# Altium footprint library 830003000.PcbLib: 1 footprints
Each footprint in its own frame and in the unit in brackets; x right, y up, seen from the top. Pads: shape width x height; smd on the part's side, far side on the other; paste and mask are expansions set on the pad; w line width, h text height; cw(c..) or ccw(c..) is an arc to the next point about the centre after c.
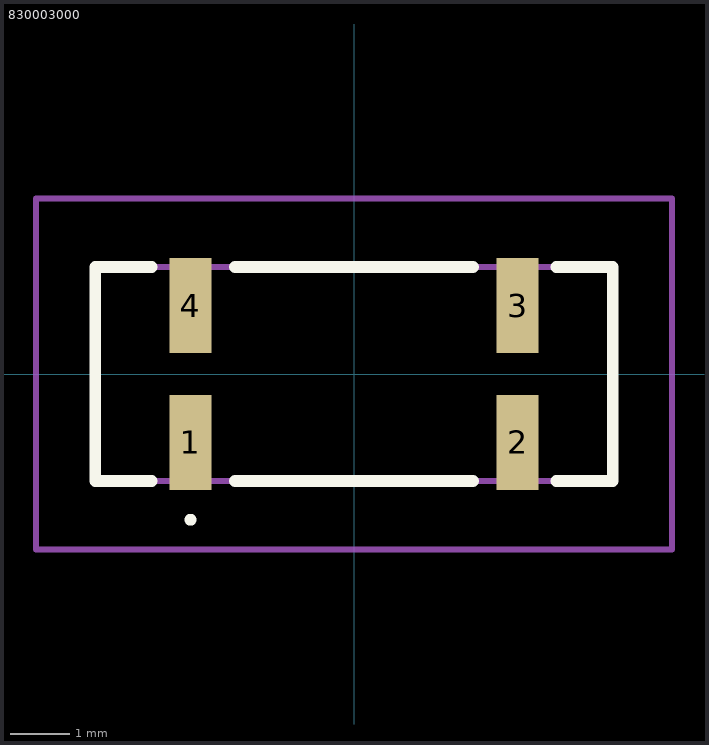
[diagram p0: the footprint, top view; thin cyan lines are the x and y axes]

## 830003000 [mm]
pads (4):
  rect 0.7x1.6 smd: 1(-2.75,-1.15) 2(2.75,-1.15) 3(2.75,1.15) 4(-2.75,1.15)
Top Overlay:
  lines w0.1: -2.75,-2.5 cw(c-2.75,-2.45) -2.75,-2.4 ; -2.75,-2.5 -2.75,-2.5 ; -2.75,-2.5 ccw(c-2.75,-2.45) -2.75,-2.4 ; -2.75,-2.4 -2.75,-2.4
  lines w0.2: -3.4,-1.8 -4.35,-1.8 -4.35,1.8 -3.4,1.8 ; -2,-1.8 2,-1.8 ; -2,1.8 2,1.8 ; 3.4,-1.8 4.35,-1.8 4.35,1.8 3.4,1.8
Mechanical 15:
  lines w0.1: -4.35,-1.8 4.35,-1.8 4.35,1.8 -4.35,1.8 -4.35,-1.8
Mechanical 20:
  lines w0.1: -5.35,-2.95 5.35,-2.95 5.35,2.95 -5.35,2.95 -5.35,-2.95